# Altium schematic symbol library SchLib_CAN2USB.SchLib: 1 symbol
Pins are listed as number, name and electrical type; pins without a type are passive.

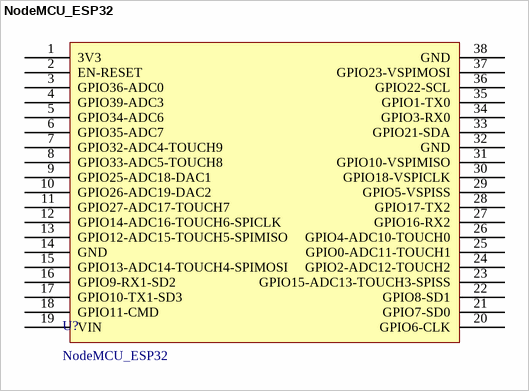
[diagram p0: symbol NodeMCU_ESP32]

## NodeMCU_ESP32
designator U?
footprint NodeMCU
pins: 1 3V3, 2 EN-RESET, 3 GPIO36-ADC0, 4 GPIO39-ADC3, 5 GPIO34-ADC6, 6 GPIO35-ADC7, 7 GPIO32-ADC4-TOUCH9, 8 GPIO33-ADC5-TOUCH8, 9 GPIO25-ADC18-DAC1, 10 GPIO26-ADC19-DAC2, 11 GPIO27-ADC17-TOUCH7, 12 GPIO14-ADC16-TOUCH6-SPICLK, 13 GPIO12-ADC15-TOUCH5-SPIMISO, 14 GND, 15 GPIO13-ADC14-TOUCH4-SPIMOSI, 16 GPIO9-RX1-SD2, 17 GPIO10-TX1-SD3, 18 GPIO11-CMD, 19 VIN, 20 GPIO6-CLK, 21 GPIO7-SD0, 22 GPIO8-SD1, 23 GPIO15-ADC13-TOUCH3-SPISS, 24 GPIO2-ADC12-TOUCH2, 25 GPIO0-ADC11-TOUCH1, 26 GPIO4-ADC10-TOUCH0, 27 GPIO16-RX2, 28 GPIO17-TX2, 29 GPIO5-VSPISS, 30 GPIO18-VSPICLK, 31 GPIO10-VSPIMISO, 32 GND, 33 GPIO21-SDA, 34 GPIO3-RX0, 35 GPIO1-TX0, 36 GPIO22-SCL, 37 GPIO23-VSPIMOSI, 38 GND